# EAGLE library part PAM8403 (library MTS-OTR_Custom)
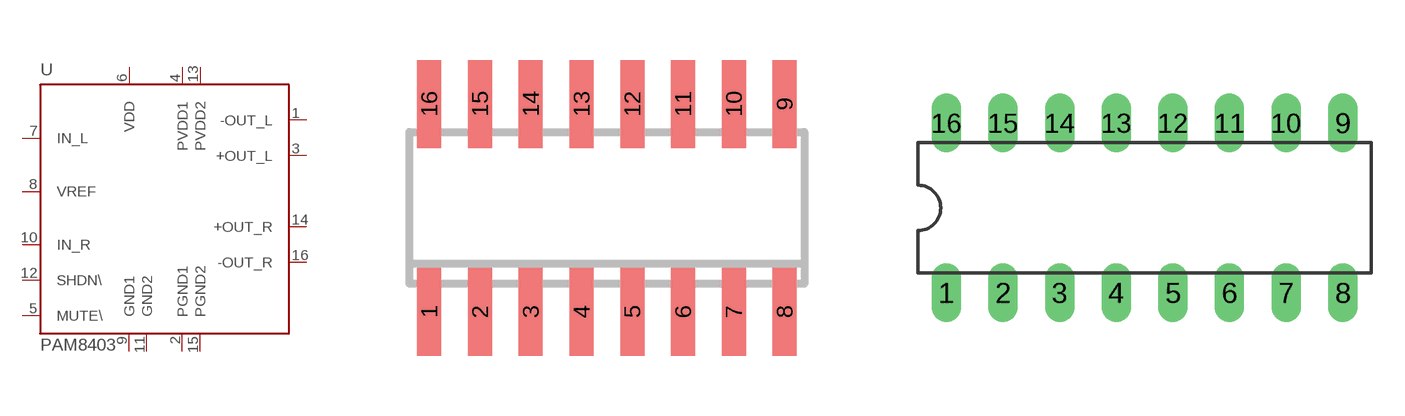
[diagram p15: symbol with the pads of SO16_A; footprints SO16_A, DIL16]

Designator prefix -

## PAM8403  [SO16_A]
1  -OUT_L  pwr
2  PGND1  in
3  +OUT_L  in
4  PVDD1  in
5  MUTE\  pwr
6  VDD  in
7  IN_L  in
8  VREF  in
9  GND1  in
10  IN_R  in
11  GND2  in
12  SHDN\  in
13  PVDD2  in
14  +OUT_R  in
15  PGND2  pwr
16  -OUT_R  pwr

## PAM8403DIP  [DIL16]
Pads as for SO16_A

## Footprint SO16_A (pad centres in mm)
SMALL OUTLINE INTEGRATED CIRCUIT body 3.9 mm/JEDEC MS-012AC
smd 0.6 x 2.2: 1 -4.445,-2.6; 2 -3.175,-2.6; 3 -1.905,-2.6; 4 -0.635,-2.6; 5 0.635,-2.6; 6 1.905,-2.6; 7 3.175,-2.6; 8 4.445,-2.6; 9 4.445,2.6; 10 3.175,2.6; 11 1.905,2.6; 12 0.635,2.6; 13 -0.635,2.6; 14 -1.905,2.6; 15 -3.175,2.6; 16 -4.445,2.6

## Footprint DIL16 (pad centres in mm)
Dual In Line Package
drill 0.813 long: 1 -8.89,-3.81; 2 -6.35,-3.81; 3 -3.81,-3.81; 4 -1.27,-3.81; 5 1.27,-3.81; 6 3.81,-3.81; 7 6.35,-3.81; 8 8.89,-3.81; 9 8.89,3.81; 10 6.35,3.81; 11 3.81,3.81; 12 1.27,3.81; 13 -1.27,3.81; 14 -3.81,3.81; 15 -6.35,3.81; 16 -8.89,3.81